# Altium footprint library myLib.PcbLib: 111 footprints (part 4 of 7)
Each footprint in its own frame and in the unit in brackets; x right, y up, seen from the top. Pads: shape width x height; smd on the part's side, far side on the other; paste and mask are expansions set on the pad; w line width, h text height; cw(c..) or ccw(c..) is an arc to the next point about the centre after c.
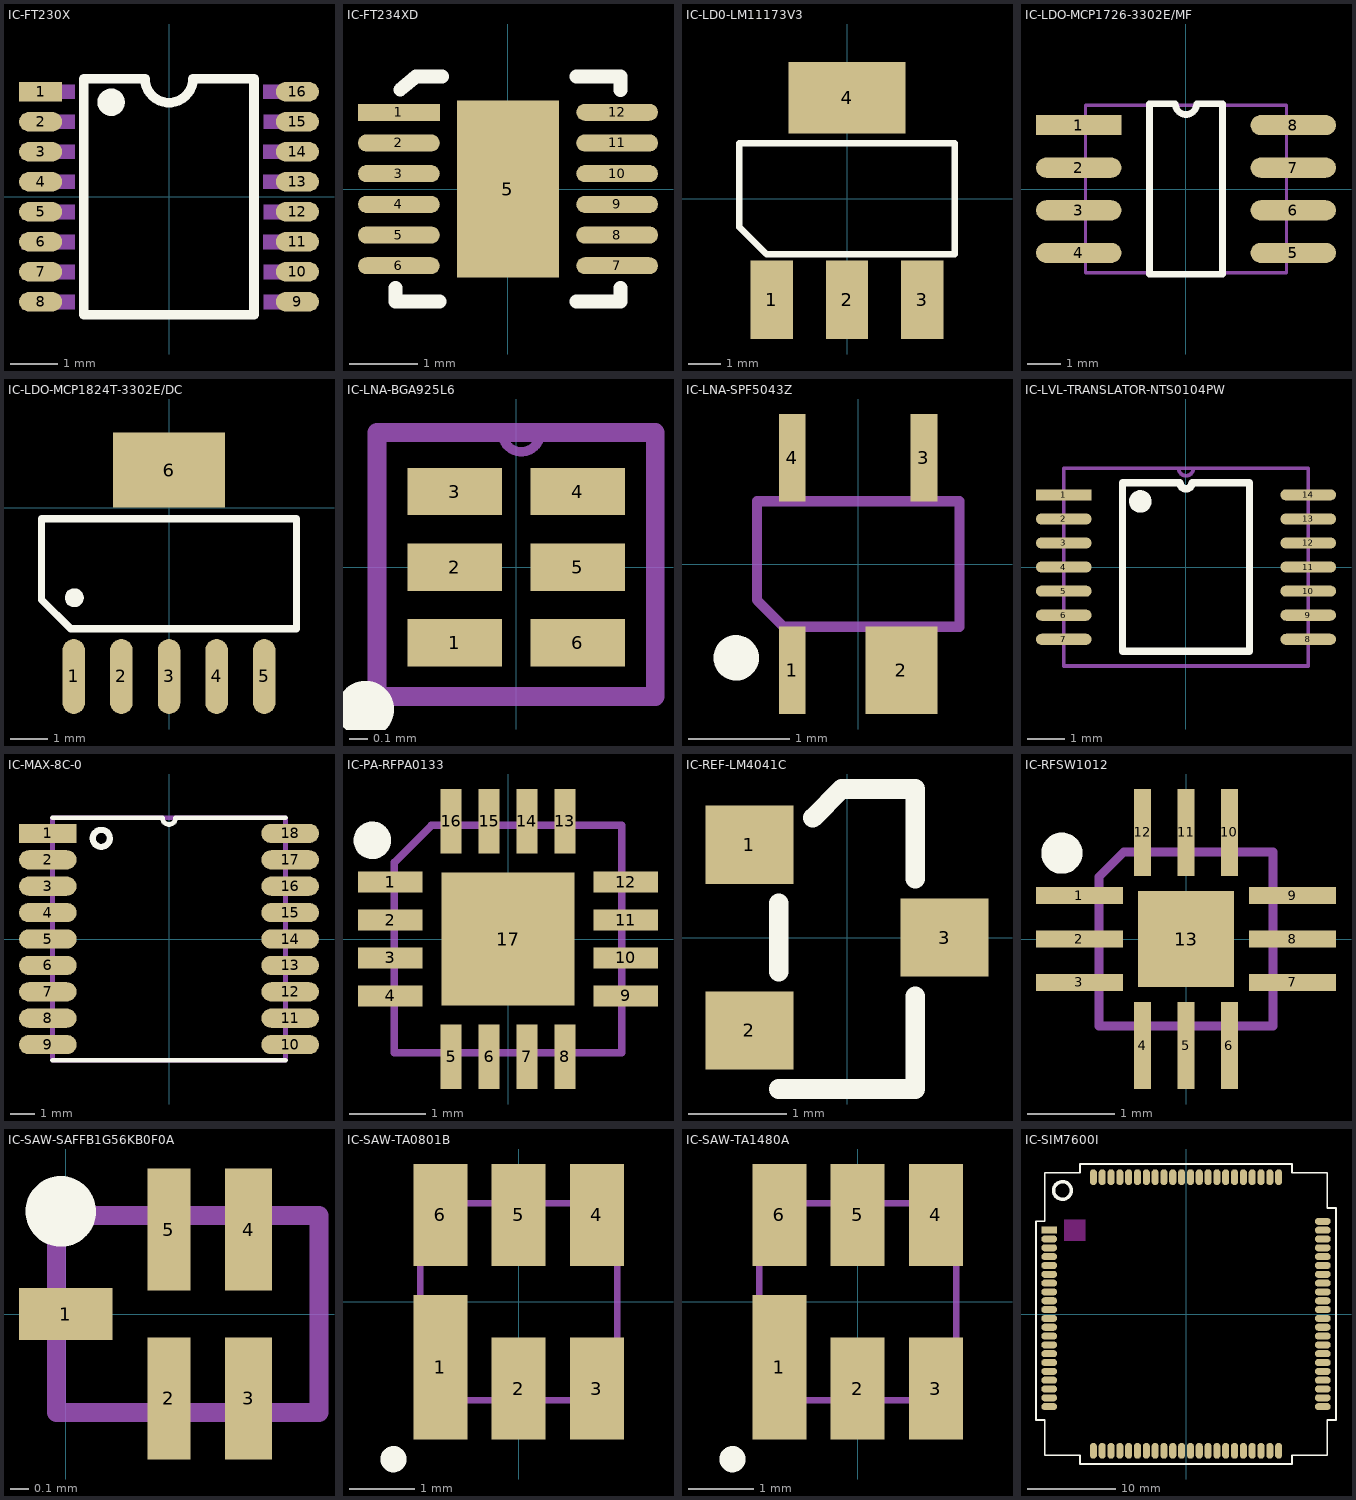
[diagram p3: the footprints below, top view; thin cyan lines are the x and y axes]

## IC-FT230X [mil]
pads (16):
  rect 36x16 smd: 1(-107,87.5)
  oval 36x16 smd: 2(-107,62.5) 3(-107,37.5) 4(-107,12.5) 5(-107,-12.5) 6(-107,-37.5) 7(-107,-62.5) 8(-107,-87.5) 9(107,-87.5) 10(107,-62.5) 11(107,-37.5) 12(107,-12.5) 13(107,12.5) 14(107,37.5) 15(107,62.5) 16(107,87.5)
Top Overlay:
  circle w11.81: c-48.23,78.74 r5.51
  lines w7.87: -70.89,98.4 -20,98.4
  lines w8: -70.89,-98.4 -70.89,98.4 ; -70.87,-98.4 70.87,-98.4 70.87,98.4 20.67,98.4 ; -20,98.4 ccw(c0,98.4) 20,98.4
Drawing:
  region: 78.71,93.5 122,93.5 122,81.72 78.71,81.72
  region: 78.8,68.5 122,68.5 122,56.72 78.8,56.72
  region: 78.7,43.5 122,43.5 122,31.58 78.7,31.58
  region: 78.73,18.5 122,18.5 122,6.52 78.73,6.52
  region: 78.94,-6.5 122,-6.5 122,-18.6 78.94,-18.6
  region: 78.74,-31.5 122,-31.5 122,-43.64 78.74,-43.64
  region: 78.75,-56.5 122,-56.5 122,-68.72 78.75,-68.72
  region: 78.84,-81.5 122,-81.5 122,-93.91 78.84,-93.91
  region: -122.2,18.5 -78.5,18.5 -78.5,6.51 -122.2,6.51
  region: -122.56,43.5 -78.5,43.5 -78.5,31.65 -122.56,31.65
  region: -122.21,68.5 -78.5,68.5 -78.5,56.6 -122.21,56.6
  region: -122.43,93.5 -78.5,93.5 -78.5,81.78 -122.43,81.78
  region: -122.38,-6.5 -78.5,-6.5 -78.5,-18.56 -122.38,-18.56
  region: -122.52,-31.5 -78.5,-31.5 -78.5,-43.69 -122.52,-43.69
  region: -122.41,-56.5 -78.5,-56.5 -78.5,-68.73 -122.41,-68.73
  region: -122.42,-81.5 -78.5,-81.5 -78.5,-93.82 -122.42,-93.82

## IC-FT234XD [mm] "USB-UART Bridge (FT234XD)"
pads (13):
  rect 1.2x0.25 smd: 1(-1.6,1.125)
  oval 1.2x0.25 smd: 2(-1.6,0.675) 3(-1.6,0.225) 4(-1.6,-0.225) 5(-1.6,-0.675) 6(-1.6,-1.125) 7(1.6,-1.125) 8(1.6,-0.675) 9(1.6,-0.225) 10(1.6,0.225) 11(1.6,0.675) 12(1.6,1.125)
  rect 1.5x2.6 smd: 5(0,0)
Top Overlay:
  lines w0.2: -1.65,-1.45 -1.65,-1.65 -1,-1.65 ; -1.581,1.457 -1.35,1.65 -0.966,1.65 ; 1,-1.65 1.65,-1.65 1.65,-1.45 ; 1,1.65 1.65,1.65 1.65,1.45

## IC-LD0-LM11173V3 [mil] "LDO, 3V3 (LM11173V3)"
pads (4):
  rect 51.2x94.5 smd: 1(-90.6,-122) 2(0,-122) 3(90.6,-122)
  rect 141.73x86.6 smd: 4(0,122)
Top Overlay:
  lines w7.87: -129.92,-34.08 -129.92,66.93 129.92,66.93 129.92,-66.93 -97.07,-66.93 -129.92,-34.08

## IC-LDO-MCP1726-3302E/MF [mm] "Low Quiescent Current LDO Regulator"
pads (8):
  rect 2.55x0.6 smd: 1(-3.2,1.905)
  oval 2.55x0.6 smd: 2(-3.2,0.635) 3(-3.2,-0.635) 4(-3.2,-1.905) 5(3.2,-1.905) 6(3.2,-0.635) 7(3.2,0.635) 8(3.2,1.905)
Top Overlay:
  lines w0.2: -1.09,-2.54 1.09,-2.54 1.09,2.54 0.318,2.54 cw(c0,2.54) -0.318,2.54 -1.09,2.54 -1.09,-2.54
Drawing:
  lines w0.1: -3,-2.5 3,-2.5 3,2.5 -3,2.5 -3,-2.5

## IC-LDO-MCP1824T-3302E/DC [mm] "SOT223, 3V3 Fixed Vout"
pads (6):
  oval 0.6x2 smd: 1(-2.54,-4.5) 2(-1.27,-4.5) 3(0,-4.5) 4(1.27,-4.5) 5(2.54,-4.5)
  rect 3x2 smd: 6(0,1)
Top Overlay:
  circle w0.254: c-2.525,-2.4 r0.125
  lines w0.2: -3.4,-2.45 -3.4,-0.3 3.4,-0.3 3.4,-3.225 -2.625,-3.225 -3.4,-2.45

## IC-LNA-BGA925L6 [mm] "1550 - 1615 MHz Low-Noise Amplifier"
pads (6):
  rect 0.5x0.25 smd: 1(-0.325,-0.4) 2(-0.325,0) 3(-0.325,0.4) 4(0.325,0.4) 5(0.325,0) 6(0.325,-0.4)
Top Overlay:
  circle w0.254: c-0.798,-0.752 r0.024
Drawing:
  lines w0.05: -0.073,0.71 ccw(c0.027,0.71) 0.127,0.71
  lines w0.1: -0.736,-0.684 -0.736,0.713 0.735,0.713 0.735,-0.684 -0.736,-0.684

## IC-LNA-SPF5043Z [mm]
pads (4):
  rect 0.264x0.864 smd: 1(-0.65,-1.05) 3(0.65,1.05) 4(-0.65,1.05)
  rect 0.71x0.864 smd: 2(0.427,-1.05)
Top Overlay:
  circle w0.254: c-1.205,-0.927 r0.097
Drawing:
  lines w0.1: -1,-0.357 -1,0.62 1,0.62 1,-0.62 -0.737,-0.62 -1,-0.357

## IC-LVL-TRANSLATOR-NTS0104PW [mm] "Level Translator"
pads (14):
  rect 1.5x0.3 smd: 1(-3.3,1.95)
  oval 1.5x0.3 smd: 2(-3.3,1.3) 3(-3.3,0.65) 4(-3.3,0) 5(-3.3,-0.65) 6(-3.3,-1.3) 7(-3.3,-1.95) 8(3.3,-1.95) 9(3.3,-1.3) 10(3.3,-0.65) 11(3.3,0) 12(3.3,0.65) 13(3.3,1.3) 14(3.3,1.95)
Top Overlay:
  lines w0.2: -1.715,-2.275 -1.715,2.275 -0.162,2.275 ccw(c0,2.275) 0.162,2.275 1.715,2.275 1.715,-2.275 -1.715,-2.275
  lines w0.3: -1.089,1.827 ccw(c-1.233,1.772) -1.082,1.802
Drawing:
  lines w0.1: -0.2,2.665 ccw(c0,2.665) 0.2,2.665 ; -3.3,-2.67 3.3,-2.67 3.3,2.67 1.65,2.67 -1.65,2.67 -3.3,2.67 -3.3,-2.67

## IC-MAX-8C-0 [mm]
pads (18):
  rect 2.4x0.8 smd: 1(-5.05,4.4)
  oval 2.4x0.8 smd: 2(-5.05,3.3) 3(-5.05,2.2) 4(-5.05,1.1) 5(-5.05,0) 6(-5.05,-1.1) 7(-5.05,-2.2) 8(-5.05,-3.3) 9(-5.05,-4.4) 10(5.05,-4.4) 11(5.05,-3.3) 12(5.05,-2.2) 13(5.05,-1.1) 14(5.05,0) 15(5.05,1.1) 16(5.05,2.2) 17(5.05,3.3) 18(5.05,4.4)
Top Overlay:
  lines w0.2: -4.85,-5.05 4.85,-5.05 ; -4.85,5.05 -0.275,5.05 ccw(c0,5.05) 0.275,5.05 4.85,5.05
  lines w0.254: -2.48,4.295 ccw(c-2.821,4.195) -2.475,4.275
Mechanical:
  lines w0.2: -4.85,-5.05 4.85,-5.05 4.85,5.05 -4.85,5.05 -4.85,-5.05
3D body: height 2.5, standoff 0, extent -4.85,-5.05 4.85,5.05

## IC-PA-RFPA0133 [mm] "Programmable Power Amplifier"
pads (17):
  rect 0.85x0.28 smd: 1(-1.55,0.75) 2(-1.55,0.25) 3(-1.55,-0.25) 4(-1.55,-0.75) 9(1.55,-0.75) 10(1.55,-0.25) 11(1.55,0.25) 12(1.55,0.75)
  rect 0.28x0.85 smd: 5(-0.75,-1.55) 6(-0.25,-1.55) 7(0.25,-1.55) 8(0.75,-1.55) 13(0.75,1.55) 14(0.25,1.55) 15(-0.25,1.55) 16(-0.75,1.55)
  rect 1.75x1.75 smd: 17(0,0)
Top Overlay:
  circle w0.254: c-1.786,1.299 r0.12
Drawing:
  lines w0.1: -1.5,-1.5 -1.5,1.007 -1.007,1.5 1.5,1.5 1.5,-1.5 -1.5,-1.5

## IC-REF-LM4041C [mm] "1.225-V Fixed and Adjustable Outputs (LM4041C)"
pads (3):
  rect 0.9x0.8 smd: 1(-1,0.95) 2(-1,-0.95) 3(1,0)
Top Overlay:
  lines w0.2: -0.7,-1.55 0.7,-1.55 0.7,-0.6 ; -0.7,-0.35 -0.7,0.35 ; -0.35,1.225 -0.055,1.52 0.7,1.52 0.7,0.6

## IC-RFSW1012 [mm] "RF SPDT Switch"
pads (13):
  rect 1x0.2 smd: 1(-1.225,0.5) 2(-1.225,0) 3(-1.225,-0.5) 7(1.225,-0.5) 8(1.225,0) 9(1.225,0.5)
  rect 0.2x1 smd: 4(-0.5,-1.225) 5(0,-1.225) 6(0.5,-1.225) 10(0.5,1.225) 11(0,1.225) 12(-0.5,1.225)
  rect 1.1x1.1 smd: 13(0,0)
Top Overlay:
  circle w0.254: c-1.427,0.987 r0.109
Drawing:
  lines w0.1: -1,-1 -1,0.715 -0.715,1 1,1 1,-1 -1,-1

## IC-SAW-SAFFB1G56KB0F0A [mm] "SAW Filter"
pads (5):
  rect 0.5x0.28 smd: 1(0,0)
  rect 0.23x0.65 smd: 2(0.55,-0.45) 5(0.55,0.45)
  rect 0.25x0.65 smd: 3(0.975,-0.45) 4(0.975,0.45)
Top Overlay:
  lines w0.254: 0.032,0.562 ccw(c-0.027,0.547) 0.034,0.55
Drawing:
  lines w0.1: -0.05,-0.525 -0.05,0.525 1.35,0.525 1.35,-0.525 -0.05,-0.525

## IC-SAW-TA0801B [mm]
pads (6):
  rect 0.82x2.2 smd: 1(-1.19,-0.995)
  rect 0.82x1.55 smd: 2(0,-1.32) 3(1.19,-1.32) 4(1.19,1.32) 5(0,1.32) 6(-1.19,1.32)
Top Overlay:
  circle w0.254: c-1.903,-2.395 r0.073
Drawing:
  lines w0.1: -1.5,-1.058 -1.058,-1.5 1.5,-1.5 1.5,1.5 -1.5,1.5 -1.5,-1.058

## IC-SAW-TA1480A [mm]
pads (6):
  rect 0.82x2.2 smd: 1(-1.19,-0.995)
  rect 0.82x1.55 smd: 2(0,-1.32) 3(1.19,-1.32) 4(1.19,1.32) 5(0,1.32) 6(-1.19,1.32)
Top Overlay:
  circle w0.254: c-1.903,-2.395 r0.073
Drawing:
  lines w0.1: -1.5,-1.058 -1.5,1.5 1.5,1.5 1.5,-1.5 -1.058,-1.5 -1.5,-1.058

## IC-SIM7600I [mm]
pads (87):
  rect 1.8x0.8 smd: 1(-15.5,9.5)
  oval 1.8x0.8 smd: 2(-15.5,8.5) 3(-15.5,7.5) 4(-15.5,6.5) 5(-15.5,5.5) 6(-15.5,4.5) 7(-15.5,3.5) 8(-15.5,2.5) 9(-15.5,1.5) 10(-15.5,0.5) 11(-15.5,-0.5) 12(-15.5,-1.5) 13(-15.5,-2.5) 14(-15.5,-3.5) 15(-15.5,-4.5) 16(-15.5,-5.5) 17(-15.5,-6.5) 18(-15.5,-7.5) 19(-15.5,-8.5) 20(-15.5,-9.5) 41(15.5,-9.5) 42(15.5,-8.5) 43(15.5,-7.5) 44(15.5,-6.5) 45(15.5,-5.5) 46(15.5,-4.5) 47(15.5,-3.5) 48(15.5,-2.5) 49(15.5,-1.5) 50(15.5,-0.5) 51(15.5,0.5) 52(15.5,1.5) 53(15.5,2.5) 54(15.5,3.5) 55(15.5,4.5) 56(15.5,5.5) 57(15.5,6.5) 58(15.5,7.5) 59(15.5,8.5) 60(15.5,9.5) 81(-15.5,-10.5) 82(15.5,-10.5) 85(15.5,10.5)
  oval 0.8x1.8 smd: 21(-9.5,-15.5) 22(-8.5,-15.5) 23(-7.5,-15.5) 24(-6.5,-15.5) 25(-5.5,-15.5) 26(-4.5,-15.5) 27(-3.5,-15.5) 28(-2.5,-15.5) 29(-1.5,-15.5) 30(-0.5,-15.5) 31(0.5,-15.5) 32(1.5,-15.5) 33(2.5,-15.5) 34(3.5,-15.5) 35(4.5,-15.5) 36(5.5,-15.5) 37(6.5,-15.5) 38(7.5,-15.5) 39(8.5,-15.5) 40(9.5,-15.5) 61(9.5,15.5) 62(8.5,15.5) 63(7.5,15.5) 64(6.5,15.5) 65(5.5,15.5) 66(4.5,15.5) 67(3.5,15.5) 68(2.5,15.5) 69(1.5,15.5) 70(0.5,15.5) 71(-0.5,15.5) 72(-1.5,15.5) 73(-2.5,15.5) 74(-3.5,15.5) 75(-4.5,15.5) 76(-5.5,15.5) 77(-6.5,15.5) 78(-7.5,15.5) 79(-8.5,15.5) 80(-9.5,15.5) 83(10.5,-15.5) 84(-10.5,-15.5) 86(-10.5,15.5) 87(10.5,15.5)
Top Layer keep-out:
  region: -13.8,10.7 -11.4,10.7 -11.4,8.3 -13.8,8.3
Top Overlay:
  circle w0.4: c-14,14 r1
  lines w0.2: -17,-12 -16,-12 -16,-16 -12,-16 -12,-17 12,-17 12,-16 16,-16 16,-12 17,-12 17,12 16,12 16,16 12,16 12,17 -12,17 -12,16 -16,16 -16,10.5 -17,10.5 -17,-12